# Altium integrated library Altium_WE-PD2A (rev20a).IntLib: 94 symbols (part 1 of 2)
Pins are listed as number, name and electrical type; pins without a type are passive.

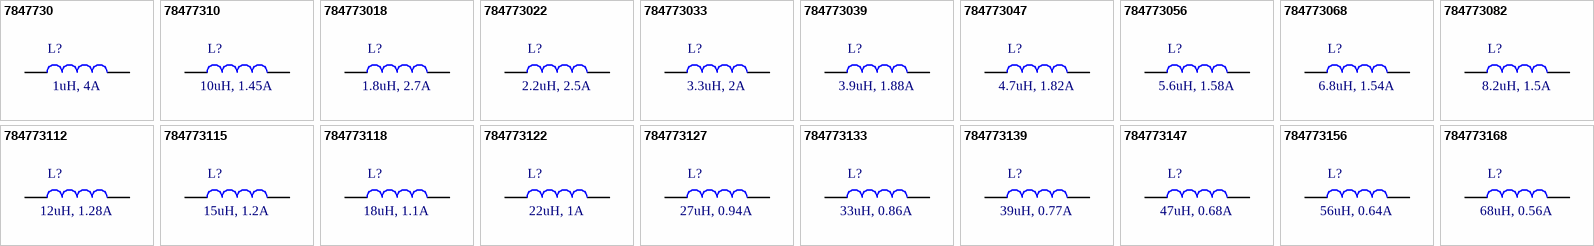
[diagram p0: symbols 7847730 to 784773168]

## 7847730
designator L?, comment 1uH, 4A
WE-PD2A SMT Power Inductor, size 4532, 1uH, 4A; Manufacturer Part Number: 7847730; Manufacturer: Wurth Elektronik; DC Resistance max.: 0.049Ohm; Saturation Current: 5.72A; Self Resonant Frequency: 110MHz; DC Resistance typ.: 0.014Ohm; Rated Voltage: 80VDC; ComponentLink1Description: Manufacturer; ComponentLink1URL: http://www.we-online.de; ComponentLink2Description: Datasheet; ComponentLink2URL: https://www.we-online.com/catalog/datasheet/7847730.pdf; Published Date: May 2020; Rated Current: 4A; Inductance: 1uH; Operating Temperature: -40 to +125degC; Mounting Technology: SMT; Packaging: Tape and Reel; Size: 4532
footprint WE-PD2A_4532
pins: 1, 2

## 78477310
designator L?, comment 10uH, 1.45A
WE-PD2A SMT Power Inductor, size 4532, 10uH, 1.45A; Manufacturer Part Number: 78477310; Manufacturer: Wurth Elektronik; DC Resistance max.: 0.182Ohm; Saturation Current: 1.74A; Self Resonant Frequency: 30MHz; DC Resistance typ.: 0.118Ohm; Rated Voltage: 80VDC; ComponentLink1Description: Manufacturer; ComponentLink1URL: http://www.we-online.de; ComponentLink2Description: Datasheet; ComponentLink2URL: https://www.we-online.com/catalog/datasheet/78477310.pdf; Published Date: May 2020; Rated Current: 1.45A; Inductance: 10uH; Operating Temperature: -40 to +125degC; Mounting Technology: SMT; Packaging: Tape and Reel; Size: 4532
footprint WE-PD2A_4532
pins: 1, 2

## 784773018
designator L?, comment 1.8uH, 2.7A
WE-PD2A SMT Power Inductor, size 4532, 1.8uH, 2.7A; Manufacturer Part Number: 784773018; Manufacturer: Wurth Elektronik; DC Resistance max.: 0.064Ohm; Saturation Current: 3.6A; Self Resonant Frequency: 85MHz; DC Resistance typ.: 0.028Ohm; Rated Voltage: 80VDC; ComponentLink1Description: Manufacturer; ComponentLink1URL: http://www.we-online.de; ComponentLink2Description: Datasheet; ComponentLink2URL: https://www.we-online.com/catalog/datasheet/784773018.pdf; Published Date: May 2020; Rated Current: 2.7A; Inductance: 1.8uH; Operating Temperature: -40 to +125degC; Mounting Technology: SMT; Packaging: Tape and Reel; Size: 4532
footprint WE-PD2A_4532
pins: 1, 2

## 784773022
designator L?, comment 2.2uH, 2.5A
WE-PD2A SMT Power Inductor, size 4532, 2.2uH, 2.5A; Manufacturer Part Number: 784773022; Manufacturer: Wurth Elektronik; DC Resistance max.: 0.071Ohm; Saturation Current: 3.38A; Self Resonant Frequency: 74MHz; DC Resistance typ.: 0.034Ohm; Rated Voltage: 80VDC; ComponentLink1Description: Manufacturer; ComponentLink1URL: http://www.we-online.de; ComponentLink2Description: Datasheet; ComponentLink2URL: https://www.we-online.com/catalog/datasheet/784773022.pdf; Published Date: May 2020; Rated Current: 2.5A; Inductance: 2.2uH; Operating Temperature: -40 to +125degC; Mounting Technology: SMT; Packaging: Tape and Reel; Size: 4532
footprint WE-PD2A_4532
pins: 1, 2

## 784773033
designator L?, comment 3.3uH, 2A
WE-PD2A SMT Power Inductor, size 4532, 3.3uH, 2A; Manufacturer Part Number: 784773033; Manufacturer: Wurth Elektronik; DC Resistance max.: 0.086Ohm; Saturation Current: 2.88A; Self Resonant Frequency: 55MHz; DC Resistance typ.: 0.041Ohm; Rated Voltage: 80VDC; ComponentLink1Description: Manufacturer; ComponentLink1URL: http://www.we-online.de; ComponentLink2Description: Datasheet; ComponentLink2URL: https://www.we-online.com/catalog/datasheet/784773033.pdf; Published Date: May 2020; Rated Current: 2A; Inductance: 3.3uH; Operating Temperature: -40 to +125degC; Mounting Technology: SMT; Packaging: Tape and Reel; Size: 4532
footprint WE-PD2A_4532
pins: 1, 2

## 784773039
designator L?, comment 3.9uH, 1.88A
WE-PD2A SMT Power Inductor, size 4532, 3.9uH, 1.88A; Manufacturer Part Number: 784773039; Manufacturer: Wurth Elektronik; DC Resistance max.: 0.094Ohm; Saturation Current: 2.57A; Self Resonant Frequency: 50MHz; DC Resistance typ.: 0.054Ohm; Rated Voltage: 80VDC; ComponentLink1Description: Manufacturer; ComponentLink1URL: http://www.we-online.de; ComponentLink2Description: Datasheet; ComponentLink2URL: https://www.we-online.com/catalog/datasheet/784773039.pdf; Published Date: May 2020; Rated Current: 1.88A; Inductance: 3.9uH; Operating Temperature: -40 to +125degC; Mounting Technology: SMT; Packaging: Tape and Reel; Size: 4532
footprint WE-PD2A_4532
pins: 1, 2

## 784773047
designator L?, comment 4.7uH, 1.82A
WE-PD2A SMT Power Inductor, size 4532, 4.7uH, 1.82A; Manufacturer Part Number: 784773047; Manufacturer: Wurth Elektronik; DC Resistance max.: 0.11Ohm; Saturation Current: 2.46A; Self Resonant Frequency: 45MHz; DC Resistance typ.: 0.059Ohm; Rated Voltage: 80VDC; ComponentLink1Description: Manufacturer; ComponentLink1URL: http://www.we-online.de; ComponentLink2Description: Datasheet; ComponentLink2URL: https://www.we-online.com/catalog/datasheet/784773047.pdf; Published Date: May 2020; Rated Current: 1.82A; Inductance: 4.7uH; Operating Temperature: -40 to +125degC; Mounting Technology: SMT; Packaging: Tape and Reel; Size: 4532
footprint WE-PD2A_4532
pins: 1, 2

## 784773056
designator L?, comment 5.6uH, 1.58A
WE-PD2A SMT Power Inductor, size 4532, 5.6uH, 1.58A; Manufacturer Part Number: 784773056; Manufacturer: Wurth Elektronik; DC Resistance max.: 0.126Ohm; Saturation Current: 2.43A; Self Resonant Frequency: 40MHz; DC Resistance typ.: 0.069Ohm; Rated Voltage: 80VDC; ComponentLink1Description: Manufacturer; ComponentLink1URL: http://www.we-online.de; ComponentLink2Description: Datasheet; ComponentLink2URL: https://www.we-online.com/catalog/datasheet/784773056.pdf; Published Date: May 2020; Rated Current: 1.58A; Inductance: 5.6uH; Operating Temperature: -40 to +125degC; Mounting Technology: SMT; Packaging: Tape and Reel; Size: 4532
footprint WE-PD2A_4532
pins: 1, 2

## 784773068
designator L?, comment 6.8uH, 1.54A
WE-PD2A SMT Power Inductor, size 4532, 6.8uH, 1.54A; Manufacturer Part Number: 784773068; Manufacturer: Wurth Elektronik; DC Resistance max.: 0.131Ohm; Saturation Current: 2.1A; Self Resonant Frequency: 35MHz; DC Resistance typ.: 0.076Ohm; Rated Voltage: 80VDC; ComponentLink1Description: Manufacturer; ComponentLink1URL: http://www.we-online.de; ComponentLink2Description: Datasheet; ComponentLink2URL: https://www.we-online.com/catalog/datasheet/784773068.pdf; Published Date: May 2020; Rated Current: 1.54A; Inductance: 6.8uH; Operating Temperature: -40 to +125degC; Mounting Technology: SMT; Packaging: Tape and Reel; Size: 4532
footprint WE-PD2A_4532
pins: 1, 2

## 784773082
designator L?, comment 8.2uH, 1.5A
WE-PD2A SMT Power Inductor, size 4532, 8.2uH, 1.5A; Manufacturer Part Number: 784773082; Manufacturer: Wurth Elektronik; DC Resistance max.: 0.146Ohm; Saturation Current: 1.8A; Self Resonant Frequency: 30MHz; DC Resistance typ.: 0.116Ohm; Rated Voltage: 80VDC; ComponentLink1Description: Manufacturer; ComponentLink1URL: http://www.we-online.de; ComponentLink2Description: Datasheet; ComponentLink2URL: https://www.we-online.com/catalog/datasheet/784773082.pdf; Published Date: May 2020; Rated Current: 1.5A; Inductance: 8.2uH; Operating Temperature: -40 to +125degC; Mounting Technology: SMT; Packaging: Tape and Reel; Size: 4532
footprint WE-PD2A_4532
pins: 1, 2

## 784773112
designator L?, comment 12uH, 1.28A
WE-PD2A SMT Power Inductor, size 4532, 12uH, 1.28A; Manufacturer Part Number: 784773112; Manufacturer: Wurth Elektronik; DC Resistance max.: 0.21Ohm; Saturation Current: 1.62A; Self Resonant Frequency: 30MHz; DC Resistance typ.: 0.156Ohm; Rated Voltage: 80VDC; ComponentLink1Description: Manufacturer; ComponentLink1URL: http://www.we-online.de; ComponentLink2Description: Datasheet; ComponentLink2URL: https://www.we-online.com/catalog/datasheet/784773112.pdf; Published Date: May 2020; Rated Current: 1.28A; Inductance: 12uH; Operating Temperature: -40 to +125degC; Mounting Technology: SMT; Packaging: Tape and Reel; Size: 4532
footprint WE-PD2A_4532
pins: 1, 2

## 784773115
designator L?, comment 15uH, 1.2A
WE-PD2A SMT Power Inductor, size 4532, 15uH, 1.2A; Manufacturer Part Number: 784773115; Manufacturer: Wurth Elektronik; DC Resistance max.: 0.235Ohm; Saturation Current: 1.46A; Self Resonant Frequency: 27MHz; DC Resistance typ.: 0.204Ohm; Rated Voltage: 80VDC; ComponentLink1Description: Manufacturer; ComponentLink1URL: http://www.we-online.de; ComponentLink2Description: Datasheet; ComponentLink2URL: https://www.we-online.com/catalog/datasheet/784773115.pdf; Published Date: May 2020; Rated Current: 1.2A; Inductance: 15uH; Operating Temperature: -40 to +125degC; Mounting Technology: SMT; Packaging: Tape and Reel; Size: 4532
footprint WE-PD2A_4532
pins: 1, 2

## 784773118
designator L?, comment 18uH, 1.1A
WE-PD2A SMT Power Inductor, size 4532, 18uH, 1.1A; Manufacturer Part Number: 784773118; Manufacturer: Wurth Elektronik; DC Resistance max.: 0.338Ohm; Saturation Current: 1.29A; Self Resonant Frequency: 22MHz; DC Resistance typ.: 0.225Ohm; Rated Voltage: 80VDC; ComponentLink1Description: Manufacturer; ComponentLink1URL: http://www.we-online.de; ComponentLink2Description: Datasheet; ComponentLink2URL: https://www.we-online.com/catalog/datasheet/784773118.pdf; Published Date: May 2020; Rated Current: 1.1A; Inductance: 18uH; Operating Temperature: -40 to +125degC; Mounting Technology: SMT; Packaging: Tape and Reel; Size: 4532
footprint WE-PD2A_4532
pins: 1, 2

## 784773122
designator L?, comment 22uH, 1A
WE-PD2A SMT Power Inductor, size 4532, 22uH, 1A; Manufacturer Part Number: 784773122; Manufacturer: Wurth Elektronik; DC Resistance max.: 0.37Ohm; Saturation Current: 1.22A; Self Resonant Frequency: 20MHz; DC Resistance typ.: 0.261Ohm; Rated Voltage: 80VDC; ComponentLink1Description: Manufacturer; ComponentLink1URL: http://www.we-online.de; ComponentLink2Description: Datasheet; ComponentLink2URL: https://www.we-online.com/catalog/datasheet/784773122.pdf; Published Date: May 2020; Rated Current: 1A; Inductance: 22uH; Operating Temperature: -40 to +125degC; Mounting Technology: SMT; Packaging: Tape and Reel; Size: 4532
footprint WE-PD2A_4532
pins: 1, 2

## 784773127
designator L?, comment 27uH, 0.94A
WE-PD2A SMT Power Inductor, size 4532, 27uH, 0.94A; Manufacturer Part Number: 784773127; Manufacturer: Wurth Elektronik; DC Resistance max.: 0.522Ohm; Saturation Current: 1A; Self Resonant Frequency: 17MHz; DC Resistance typ.: 0.328Ohm; Rated Voltage: 80VDC; ComponentLink1Description: Manufacturer; ComponentLink1URL: http://www.we-online.de; ComponentLink2Description: Datasheet; ComponentLink2URL: https://www.we-online.com/catalog/datasheet/784773127.pdf; Published Date: May 2020; Rated Current: 0.94A; Inductance: 27uH; Operating Temperature: -40 to +125degC; Mounting Technology: SMT; Packaging: Tape and Reel; Size: 4532
footprint WE-PD2A_4532
pins: 1, 2

## 784773133
designator L?, comment 33uH, 0.86A
WE-PD2A SMT Power Inductor, size 4532, 33uH, 0.86A; Manufacturer Part Number: 784773133; Manufacturer: Wurth Elektronik; DC Resistance max.: 0.54Ohm; Saturation Current: 0.9A; Self Resonant Frequency: 16MHz; DC Resistance typ.: 0.37Ohm; Rated Voltage: 80VDC; ComponentLink1Description: Manufacturer; ComponentLink1URL: http://www.we-online.de; ComponentLink2Description: Datasheet; ComponentLink2URL: https://www.we-online.com/catalog/datasheet/784773133.pdf; Published Date: May 2020; Rated Current: 0.86A; Inductance: 33uH; Operating Temperature: -40 to +125degC; Mounting Technology: SMT; Packaging: Tape and Reel; Size: 4532
footprint WE-PD2A_4532
pins: 1, 2

## 784773139
designator L?, comment 39uH, 0.77A
WE-PD2A SMT Power Inductor, size 4532, 39uH, 0.77A; Manufacturer Part Number: 784773139; Manufacturer: Wurth Elektronik; DC Resistance max.: 0.587Ohm; Saturation Current: 0.87A; Self Resonant Frequency: 15MHz; DC Resistance typ.: 0.418Ohm; Rated Voltage: 80VDC; ComponentLink1Description: Manufacturer; ComponentLink1URL: http://www.we-online.de; ComponentLink2Description: Datasheet; ComponentLink2URL: https://www.we-online.com/catalog/datasheet/784773139.pdf; Published Date: May 2020; Rated Current: 0.77A; Inductance: 39uH; Operating Temperature: -40 to +125degC; Mounting Technology: SMT; Packaging: Tape and Reel; Size: 4532
footprint WE-PD2A_4532
pins: 1, 2

## 784773147
designator L?, comment 47uH, 0.68A
WE-PD2A SMT Power Inductor, size 4532, 47uH, 0.68A; Manufacturer Part Number: 784773147; Manufacturer: Wurth Elektronik; DC Resistance max.: 0.844Ohm; Saturation Current: 0.77A; Self Resonant Frequency: 12MHz; DC Resistance typ.: 0.523Ohm; Rated Voltage: 80VDC; ComponentLink1Description: Manufacturer; ComponentLink1URL: http://www.we-online.de; ComponentLink2Description: Datasheet; ComponentLink2URL: https://www.we-online.com/catalog/datasheet/784773147.pdf; Published Date: May 2020; Rated Current: 0.68A; Inductance: 47uH; Operating Temperature: -40 to +125degC; Mounting Technology: SMT; Packaging: Tape and Reel; Size: 4532
footprint WE-PD2A_4532
pins: 1, 2

## 784773156
designator L?, comment 56uH, 0.64A
WE-PD2A SMT Power Inductor, size 4532, 56uH, 0.64A; Manufacturer Part Number: 784773156; Manufacturer: Wurth Elektronik; DC Resistance max.: 0.937Ohm; Saturation Current: 0.75A; Self Resonant Frequency: 12MHz; DC Resistance typ.: 0.714Ohm; Rated Voltage: 80VDC; ComponentLink1Description: Manufacturer; ComponentLink1URL: http://www.we-online.de; ComponentLink2Description: Datasheet; ComponentLink2URL: https://www.we-online.com/catalog/datasheet/784773156.pdf; Published Date: May 2020; Rated Current: 0.64A; Inductance: 56uH; Operating Temperature: -40 to +125degC; Mounting Technology: SMT; Packaging: Tape and Reel; Size: 4532
footprint WE-PD2A_4532
pins: 1, 2

## 784773168
designator L?, comment 68uH, 0.56A
WE-PD2A SMT Power Inductor, size 4532, 68uH, 0.56A; Manufacturer Part Number: 784773168; Manufacturer: Wurth Elektronik; DC Resistance max.: 1.117Ohm; Saturation Current: 0.68A; Self Resonant Frequency: 11MHz; DC Resistance typ.: 0.754Ohm; Rated Voltage: 80VDC; ComponentLink1Description: Manufacturer; ComponentLink1URL: http://www.we-online.de; ComponentLink2Description: Datasheet; ComponentLink2URL: https://www.we-online.com/catalog/datasheet/784773168.pdf; Published Date: May 2020; Rated Current: 0.56A; Inductance: 68uH; Operating Temperature: -40 to +125degC; Mounting Technology: SMT; Packaging: Tape and Reel; Size: 4532
footprint WE-PD2A_4532
pins: 1, 2


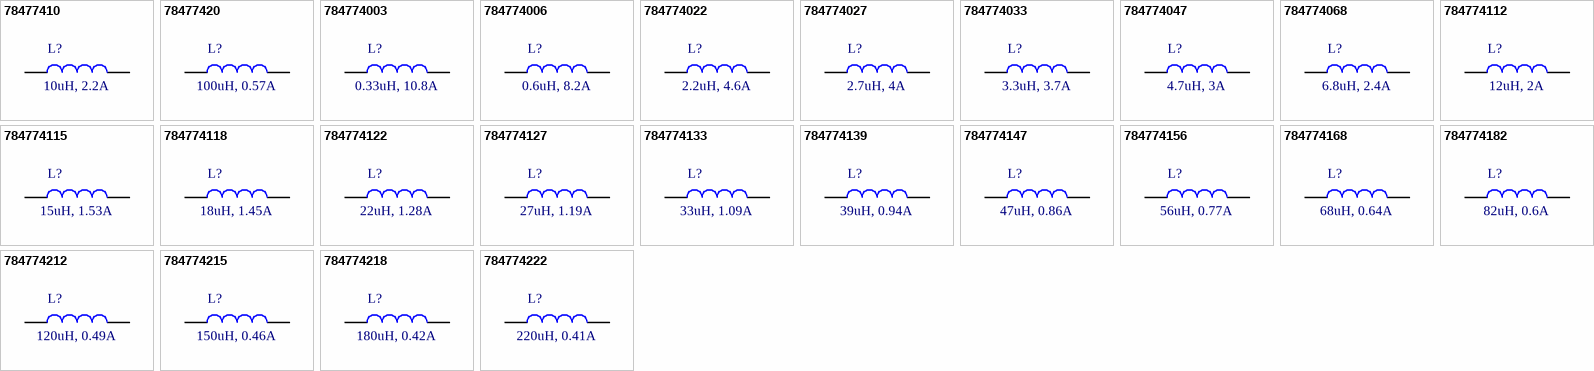
[diagram p1: symbols 78477410 to 784774222]

## 78477410
designator L?, comment 10uH, 2.2A
WE-PD2A SMT Power Inductor, size 5848, 10uH, 2.2A; Manufacturer Part Number: 78477410; Manufacturer: Wurth Elektronik; DC Resistance max.: 0.1Ohm; Saturation Current: 2.5A; Self Resonant Frequency: 26MHz; DC Resistance typ.: 0.078Ohm; Rated Voltage: 80VDC; ComponentLink1Description: Manufacturer; ComponentLink1URL: http://www.we-online.de; ComponentLink2Description: Datasheet; ComponentLink2URL: https://www.we-online.com/catalog/datasheet/78477410.pdf; Published Date: May 2020; Rated Current: 2.2A; Inductance: 10uH; Operating Temperature: -40 to +125degC; Mounting Technology: SMT; Packaging: Tape and Reel; Size: 5848
footprint WE-PD2A_5848
pins: 1, 2

## 78477420
designator L?, comment 100uH, 0.57A
WE-PD2A SMT Power Inductor, size 5848, 100uH, 0.57A; Manufacturer Part Number: 78477420; Manufacturer: Wurth Elektronik; DC Resistance max.: 0.65Ohm; Saturation Current: 0.68A; Self Resonant Frequency: 7MHz; DC Resistance typ.: 0.51Ohm; Rated Voltage: 80VDC; ComponentLink1Description: Manufacturer; ComponentLink1URL: http://www.we-online.de; ComponentLink2Description: Datasheet; ComponentLink2URL: https://www.we-online.com/catalog/datasheet/78477420.pdf; Published Date: May 2020; Rated Current: 0.57A; Inductance: 100uH; Operating Temperature: -40 to +125degC; Mounting Technology: SMT; Packaging: Tape and Reel; Size: 5848
footprint WE-PD2A_5848
pins: 1, 2

## 784774003
designator L?, comment 0.33uH, 10.8A
WE-PD2A SMT Power Inductor, size 5848, 0.33uH, 10.8A; Manufacturer Part Number: 784774003; Manufacturer: Wurth Elektronik; DC Resistance max.: 0.008Ohm; Saturation Current: 15.3A; Self Resonant Frequency: 295MHz; DC Resistance typ.: 0.006Ohm; Rated Voltage: 80VDC; ComponentLink1Description: Manufacturer; ComponentLink1URL: http://www.we-online.de; ComponentLink2Description: Datasheet; ComponentLink2URL: https://www.we-online.com/catalog/datasheet/784774003.pdf; Published Date: May 2020; Rated Current: 10.8A; Inductance: 0.33uH; Operating Temperature: -40 to +125degC; Mounting Technology: SMT; Packaging: Tape and Reel; Size: 5848
footprint WE-PD2A_5848
pins: 1, 2

## 784774006
designator L?, comment 0.6uH, 8.2A
WE-PD2A SMT Power Inductor, size 5848, 0.6uH, 8.2A; Manufacturer Part Number: 784774006; Manufacturer: Wurth Elektronik; DC Resistance max.: 0.018Ohm; Saturation Current: 13.5A; Self Resonant Frequency: 210MHz; DC Resistance typ.: 0.009Ohm; Rated Voltage: 80VDC; ComponentLink1Description: Manufacturer; ComponentLink1URL: http://www.we-online.de; ComponentLink2Description: Datasheet; ComponentLink2URL: https://www.we-online.com/catalog/datasheet/784774006.pdf; Published Date: May 2020; Rated Current: 8.2A; Inductance: 0.6uH; Operating Temperature: -40 to +125degC; Mounting Technology: SMT; Packaging: Tape and Reel; Size: 5848
footprint WE-PD2A_5848
pins: 1, 2

## 784774022
designator L?, comment 2.2uH, 4.6A
WE-PD2A SMT Power Inductor, size 5848, 2.2uH, 4.6A; Manufacturer Part Number: 784774022; Manufacturer: Wurth Elektronik; DC Resistance max.: 0.041Ohm; Saturation Current: 8.2A; Self Resonant Frequency: 54MHz; DC Resistance typ.: 0.026Ohm; Rated Voltage: 80VDC; ComponentLink1Description: Manufacturer; ComponentLink1URL: http://www.we-online.de; ComponentLink2Description: Datasheet; ComponentLink2URL: https://www.we-online.com/catalog/datasheet/784774022.pdf; Published Date: May 2020; Rated Current: 4.6A; Inductance: 2.2uH; Operating Temperature: -40 to +125degC; Mounting Technology: SMT; Packaging: Tape and Reel; Size: 5848
footprint WE-PD2A_5848
pins: 1, 2

## 784774027
designator L?, comment 2.7uH, 4A
WE-PD2A SMT Power Inductor, size 5848, 2.7uH, 4A; Manufacturer Part Number: 784774027; Manufacturer: Wurth Elektronik; DC Resistance max.: 0.045Ohm; Saturation Current: 8A; Self Resonant Frequency: 50MHz; DC Resistance typ.: 0.032Ohm; Rated Voltage: 80VDC; ComponentLink1Description: Manufacturer; ComponentLink1URL: http://www.we-online.de; ComponentLink2Description: Datasheet; ComponentLink2URL: https://www.we-online.com/catalog/datasheet/784774027.pdf; Published Date: May 2020; Rated Current: 4A; Inductance: 2.7uH; Operating Temperature: -40 to +125degC; Mounting Technology: SMT; Packaging: Tape and Reel; Size: 5848
footprint WE-PD2A_5848
pins: 1, 2

## 784774033
designator L?, comment 3.3uH, 3.7A
WE-PD2A SMT Power Inductor, size 5848, 3.3uH, 3.7A; Manufacturer Part Number: 784774033; Manufacturer: Wurth Elektronik; DC Resistance max.: 0.06Ohm; Saturation Current: 7.5A; Self Resonant Frequency: 43MHz; DC Resistance typ.: 0.042Ohm; Rated Voltage: 80VDC; ComponentLink1Description: Manufacturer; ComponentLink1URL: http://www.we-online.de; ComponentLink2Description: Datasheet; ComponentLink2URL: https://www.we-online.com/catalog/datasheet/784774033.pdf; Published Date: May 2020; Rated Current: 3.7A; Inductance: 3.3uH; Operating Temperature: -40 to +125degC; Mounting Technology: SMT; Packaging: Tape and Reel; Size: 5848
footprint WE-PD2A_5848
pins: 1, 2

## 784774047
designator L?, comment 4.7uH, 3A
WE-PD2A SMT Power Inductor, size 5848, 4.7uH, 3A; Manufacturer Part Number: 784774047; Manufacturer: Wurth Elektronik; DC Resistance max.: 0.071Ohm; Saturation Current: 5.5A; Self Resonant Frequency: 33MHz; DC Resistance typ.: 0.056Ohm; Rated Voltage: 80VDC; ComponentLink1Description: Manufacturer; ComponentLink1URL: http://www.we-online.de; ComponentLink2Description: Datasheet; ComponentLink2URL: https://www.we-online.com/catalog/datasheet/784774047.pdf; Published Date: May 2020; Rated Current: 3A; Inductance: 4.7uH; Operating Temperature: -40 to +125degC; Mounting Technology: SMT; Packaging: Tape and Reel; Size: 5848
footprint WE-PD2A_5848
pins: 1, 2

## 784774068
designator L?, comment 6.8uH, 2.4A
WE-PD2A SMT Power Inductor, size 5848, 6.8uH, 2.4A; Manufacturer Part Number: 784774068; Manufacturer: Wurth Elektronik; DC Resistance max.: 0.082Ohm; Saturation Current: 5A; Self Resonant Frequency: 28MHz; DC Resistance typ.: 0.071Ohm; Rated Voltage: 80VDC; ComponentLink1Description: Manufacturer; ComponentLink1URL: http://www.we-online.de; ComponentLink2Description: Datasheet; ComponentLink2URL: https://www.we-online.com/catalog/datasheet/784774068.pdf; Published Date: May 2020; Rated Current: 2.4A; Inductance: 6.8uH; Operating Temperature: -40 to +125degC; Mounting Technology: SMT; Packaging: Tape and Reel; Size: 5848
footprint WE-PD2A_5848
pins: 1, 2

## 784774112
designator L?, comment 12uH, 2A
WE-PD2A SMT Power Inductor, size 5848, 12uH, 2A; Manufacturer Part Number: 784774112; Manufacturer: Wurth Elektronik; DC Resistance max.: 0.11Ohm; Saturation Current: 1.94A; Self Resonant Frequency: 24MHz; DC Resistance typ.: 0.082Ohm; Rated Voltage: 80VDC; ComponentLink1Description: Manufacturer; ComponentLink1URL: http://www.we-online.de; ComponentLink2Description: Datasheet; ComponentLink2URL: https://www.we-online.com/catalog/datasheet/784774112.pdf; Published Date: May 2020; Rated Current: 2A; Inductance: 12uH; Operating Temperature: -40 to +125degC; Mounting Technology: SMT; Packaging: Tape and Reel; Size: 5848
footprint WE-PD2A_5848
pins: 1, 2

## 784774115
designator L?, comment 15uH, 1.53A
WE-PD2A SMT Power Inductor, size 5848, 15uH, 1.53A; Manufacturer Part Number: 784774115; Manufacturer: Wurth Elektronik; DC Resistance max.: 0.14Ohm; Saturation Current: 1.9A; Self Resonant Frequency: 20MHz; DC Resistance typ.: 0.089Ohm; Rated Voltage: 80VDC; ComponentLink1Description: Manufacturer; ComponentLink1URL: http://www.we-online.de; ComponentLink2Description: Datasheet; ComponentLink2URL: https://www.we-online.com/catalog/datasheet/784774115.pdf; Published Date: May 2020; Rated Current: 1.53A; Inductance: 15uH; Operating Temperature: -40 to +125degC; Mounting Technology: SMT; Packaging: Tape and Reel; Size: 5848
footprint WE-PD2A_5848
pins: 1, 2

## 784774118
designator L?, comment 18uH, 1.45A
WE-PD2A SMT Power Inductor, size 5848, 18uH, 1.45A; Manufacturer Part Number: 784774118; Manufacturer: Wurth Elektronik; DC Resistance max.: 0.15Ohm; Saturation Current: 1.69A; Self Resonant Frequency: 19MHz; DC Resistance typ.: 0.104Ohm; Rated Voltage: 80VDC; ComponentLink1Description: Manufacturer; ComponentLink1URL: http://www.we-online.de; ComponentLink2Description: Datasheet; ComponentLink2URL: https://www.we-online.com/catalog/datasheet/784774118.pdf; Published Date: May 2020; Rated Current: 1.45A; Inductance: 18uH; Operating Temperature: -40 to +125degC; Mounting Technology: SMT; Packaging: Tape and Reel; Size: 5848
footprint WE-PD2A_5848
pins: 1, 2

## 784774122
designator L?, comment 22uH, 1.28A
WE-PD2A SMT Power Inductor, size 5848, 22uH, 1.28A; Manufacturer Part Number: 784774122; Manufacturer: Wurth Elektronik; DC Resistance max.: 0.18Ohm; Saturation Current: 1.53A; Self Resonant Frequency: 16MHz; DC Resistance typ.: 0.109Ohm; Rated Voltage: 80VDC; ComponentLink1Description: Manufacturer; ComponentLink1URL: http://www.we-online.de; ComponentLink2Description: Datasheet; ComponentLink2URL: https://www.we-online.com/catalog/datasheet/784774122.pdf; Published Date: May 2020; Rated Current: 1.28A; Inductance: 22uH; Operating Temperature: -40 to +125degC; Mounting Technology: SMT; Packaging: Tape and Reel; Size: 5848
footprint WE-PD2A_5848
pins: 1, 2

## 784774127
designator L?, comment 27uH, 1.19A
WE-PD2A SMT Power Inductor, size 5848, 27uH, 1.19A; Manufacturer Part Number: 784774127; Manufacturer: Wurth Elektronik; DC Resistance max.: 0.2Ohm; Saturation Current: 1.4A; Self Resonant Frequency: 15MHz; DC Resistance typ.: 0.133Ohm; Rated Voltage: 80VDC; ComponentLink1Description: Manufacturer; ComponentLink1URL: http://www.we-online.de; ComponentLink2Description: Datasheet; ComponentLink2URL: https://www.we-online.com/catalog/datasheet/784774127.pdf; Published Date: May 2020; Rated Current: 1.19A; Inductance: 27uH; Operating Temperature: -40 to +125degC; Mounting Technology: SMT; Packaging: Tape and Reel; Size: 5848
footprint WE-PD2A_5848
pins: 1, 2

## 784774133
designator L?, comment 33uH, 1.09A
WE-PD2A SMT Power Inductor, size 5848, 33uH, 1.09A; Manufacturer Part Number: 784774133; Manufacturer: Wurth Elektronik; DC Resistance max.: 0.23Ohm; Saturation Current: 1.17A; Self Resonant Frequency: 14MHz; DC Resistance typ.: 0.15Ohm; Rated Voltage: 80VDC; ComponentLink1Description: Manufacturer; ComponentLink1URL: http://www.we-online.de; ComponentLink2Description: Datasheet; ComponentLink2URL: https://www.we-online.com/catalog/datasheet/784774133.pdf; Published Date: May 2020; Rated Current: 1.09A; Inductance: 33uH; Operating Temperature: -40 to +125degC; Mounting Technology: SMT; Packaging: Tape and Reel; Size: 5848
footprint WE-PD2A_5848
pins: 1, 2

## 784774139
designator L?, comment 39uH, 0.94A
WE-PD2A SMT Power Inductor, size 5848, 39uH, 0.94A; Manufacturer Part Number: 784774139; Manufacturer: Wurth Elektronik; DC Resistance max.: 0.32Ohm; Saturation Current: 1.1A; Self Resonant Frequency: 12MHz; DC Resistance typ.: 0.215Ohm; Rated Voltage: 80VDC; ComponentLink1Description: Manufacturer; ComponentLink1URL: http://www.we-online.de; ComponentLink2Description: Datasheet; ComponentLink2URL: https://www.we-online.com/catalog/datasheet/784774139.pdf; Published Date: May 2020; Rated Current: 0.94A; Inductance: 39uH; Operating Temperature: -40 to +125degC; Mounting Technology: SMT; Packaging: Tape and Reel; Size: 5848
footprint WE-PD2A_5848
pins: 1, 2

## 784774147
designator L?, comment 47uH, 0.86A
WE-PD2A SMT Power Inductor, size 5848, 47uH, 0.86A; Manufacturer Part Number: 784774147; Manufacturer: Wurth Elektronik; DC Resistance max.: 0.37Ohm; Saturation Current: 1A; Self Resonant Frequency: 10MHz; DC Resistance typ.: 0.26Ohm; Rated Voltage: 80VDC; ComponentLink1Description: Manufacturer; ComponentLink1URL: http://www.we-online.de; ComponentLink2Description: Datasheet; ComponentLink2URL: https://www.we-online.com/catalog/datasheet/784774147.pdf; Published Date: May 2020; Rated Current: 0.86A; Inductance: 47uH; Operating Temperature: -40 to +125degC; Mounting Technology: SMT; Packaging: Tape and Reel; Size: 5848
footprint WE-PD2A_5848
pins: 1, 2

## 784774156
designator L?, comment 56uH, 0.77A
WE-PD2A SMT Power Inductor, size 5848, 56uH, 0.77A; Manufacturer Part Number: 784774156; Manufacturer: Wurth Elektronik; DC Resistance max.: 0.42Ohm; Saturation Current: 0.9A; Self Resonant Frequency: 10MHz; DC Resistance typ.: 0.298Ohm; Rated Voltage: 80VDC; ComponentLink1Description: Manufacturer; ComponentLink1URL: http://www.we-online.de; ComponentLink2Description: Datasheet; ComponentLink2URL: https://www.we-online.com/catalog/datasheet/784774156.pdf; Published Date: May 2020; Rated Current: 0.77A; Inductance: 56uH; Operating Temperature: -40 to +125degC; Mounting Technology: SMT; Packaging: Tape and Reel; Size: 5848
footprint WE-PD2A_5848
pins: 1, 2

## 784774168
designator L?, comment 68uH, 0.64A
WE-PD2A SMT Power Inductor, size 5848, 68uH, 0.64A; Manufacturer Part Number: 784774168; Manufacturer: Wurth Elektronik; DC Resistance max.: 0.46Ohm; Saturation Current: 0.86A; Self Resonant Frequency: 10MHz; DC Resistance typ.: 0.313Ohm; Rated Voltage: 80VDC; ComponentLink1Description: Manufacturer; ComponentLink1URL: http://www.we-online.de; ComponentLink2Description: Datasheet; ComponentLink2URL: https://www.we-online.com/catalog/datasheet/784774168.pdf; Published Date: May 2020; Rated Current: 0.64A; Inductance: 68uH; Operating Temperature: -40 to +125degC; Mounting Technology: SMT; Packaging: Tape and Reel; Size: 5848
footprint WE-PD2A_5848
pins: 1, 2

## 784774182
designator L?, comment 82uH, 0.6A
WE-PD2A SMT Power Inductor, size 5848, 82uH, 0.6A; Manufacturer Part Number: 784774182; Manufacturer: Wurth Elektronik; DC Resistance max.: 0.6Ohm; Saturation Current: 0.72A; Self Resonant Frequency: 8MHz; DC Resistance typ.: 0.475Ohm; Rated Voltage: 80VDC; ComponentLink1Description: Manufacturer; ComponentLink1URL: http://www.we-online.de; ComponentLink2Description: Datasheet; ComponentLink2URL: https://www.we-online.com/catalog/datasheet/784774182.pdf; Published Date: May 2020; Rated Current: 0.6A; Inductance: 82uH; Operating Temperature: -40 to +125degC; Mounting Technology: SMT; Packaging: Tape and Reel; Size: 5848
footprint WE-PD2A_5848
pins: 1, 2

## 784774212
designator L?, comment 120uH, 0.49A
WE-PD2A SMT Power Inductor, size 5848, 120uH, 0.49A; Manufacturer Part Number: 784774212; Manufacturer: Wurth Elektronik; DC Resistance max.: 0.93Ohm; Saturation Current: 0.63A; Self Resonant Frequency: 7MHz; DC Resistance typ.: 0.66Ohm; Rated Voltage: 80VDC; ComponentLink1Description: Manufacturer; ComponentLink1URL: http://www.we-online.de; ComponentLink2Description: Datasheet; ComponentLink2URL: https://www.we-online.com/catalog/datasheet/784774212.pdf; Published Date: May 2020; Rated Current: 0.49A; Inductance: 120uH; Operating Temperature: -40 to +125degC; Mounting Technology: SMT; Packaging: Tape and Reel; Size: 5848
footprint WE-PD2A_5848
pins: 1, 2

## 784774215
designator L?, comment 150uH, 0.46A
WE-PD2A SMT Power Inductor, size 5848, 150uH, 0.46A; Manufacturer Part Number: 784774215; Manufacturer: Wurth Elektronik; DC Resistance max.: 1.1Ohm; Saturation Current: 0.54A; Self Resonant Frequency: 6MHz; DC Resistance typ.: 0.72Ohm; Rated Voltage: 80VDC; ComponentLink1Description: Manufacturer; ComponentLink1URL: http://www.we-online.de; ComponentLink2Description: Datasheet; ComponentLink2URL: https://www.we-online.com/catalog/datasheet/784774215.pdf; Published Date: May 2020; Rated Current: 0.46A; Inductance: 150uH; Operating Temperature: -40 to +125degC; Mounting Technology: SMT; Packaging: Tape and Reel; Size: 5848
footprint WE-PD2A_5848
pins: 1, 2

## 784774218
designator L?, comment 180uH, 0.42A
WE-PD2A SMT Power Inductor, size 5848, 180uH, 0.42A; Manufacturer Part Number: 784774218; Manufacturer: Wurth Elektronik; DC Resistance max.: 1.38Ohm; Saturation Current: 0.5A; Self Resonant Frequency: 6MHz; DC Resistance typ.: 0.85Ohm; Rated Voltage: 80VDC; ComponentLink1Description: Manufacturer; ComponentLink1URL: http://www.we-online.de; ComponentLink2Description: Datasheet; ComponentLink2URL: https://www.we-online.com/catalog/datasheet/784774218.pdf; Published Date: May 2020; Rated Current: 0.42A; Inductance: 180uH; Operating Temperature: -40 to +125degC; Mounting Technology: SMT; Packaging: Tape and Reel; Size: 5848
footprint WE-PD2A_5848
pins: 1, 2

## 784774222
designator L?, comment 220uH, 0.41A
WE-PD2A SMT Power Inductor, size 5848, 220uH, 0.41A; Manufacturer Part Number: 784774222; Manufacturer: Wurth Elektronik; DC Resistance max.: 1.57Ohm; Saturation Current: 0.47A; Self Resonant Frequency: 5MHz; DC Resistance typ.: 0.945Ohm; Rated Voltage: 80VDC; ComponentLink1Description: Manufacturer; ComponentLink1URL: http://www.we-online.de; ComponentLink2Description: Datasheet; ComponentLink2URL: https://www.we-online.com/catalog/datasheet/784774222.pdf; Published Date: May 2020; Rated Current: 0.41A; Inductance: 220uH; Operating Temperature: -40 to +125degC; Mounting Technology: SMT; Packaging: Tape and Reel; Size: 5848
footprint WE-PD2A_5848
pins: 1, 2


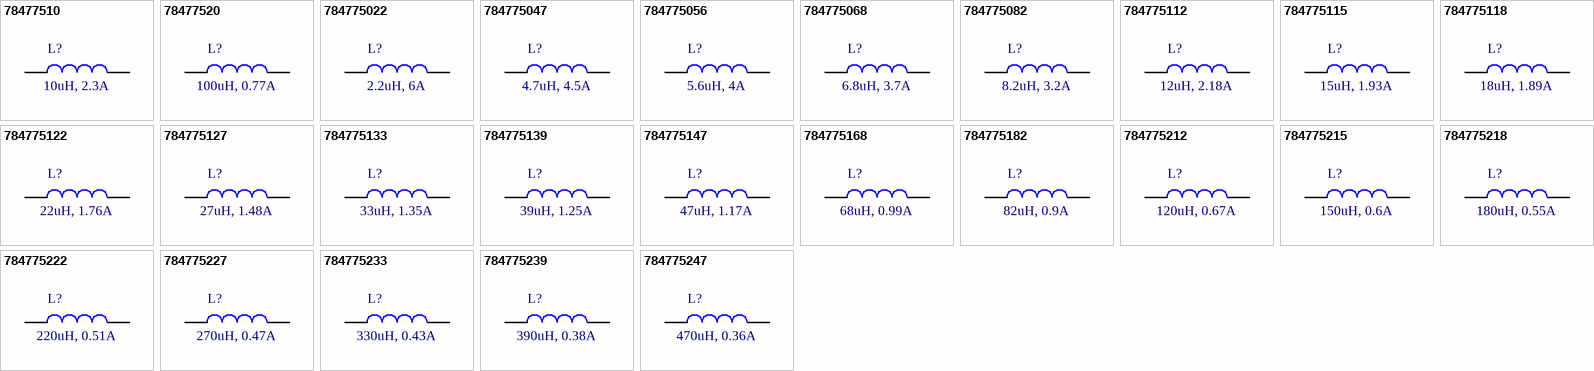
[diagram p2: symbols 78477510 to 784775247]

## 78477510
designator L?, comment 10uH, 2.3A
WE-PD2A SMT Power Inductor, size 7850, 10uH, 2.3A; Manufacturer Part Number: 78477510; Manufacturer: Wurth Elektronik; DC Resistance max.: 0.07Ohm; Saturation Current: 2.95A; Self Resonant Frequency: 23MHz; DC Resistance typ.: 0.04Ohm; Rated Voltage: 80VDC; ComponentLink1Description: Manufacturer; ComponentLink1URL: http://www.we-online.de; ComponentLink2Description: Datasheet; ComponentLink2URL: https://www.we-online.com/catalog/datasheet/78477510.pdf; Published Date: May 2020; Rated Current: 2.3A; Inductance: 10uH; Operating Temperature: -40 to +125degC; Mounting Technology: SMT; Packaging: Tape and Reel; Size: 7850
footprint WE-PD2A_7850
pins: 1, 2

## 78477520
designator L?, comment 100uH, 0.77A
WE-PD2A SMT Power Inductor, size 7850, 100uH, 0.77A; Manufacturer Part Number: 78477520; Manufacturer: Wurth Elektronik; DC Resistance max.: 0.43Ohm; Saturation Current: 0.86A; Self Resonant Frequency: 7MHz; DC Resistance typ.: 0.281Ohm; Rated Voltage: 80VDC; ComponentLink1Description: Manufacturer; ComponentLink1URL: http://www.we-online.de; ComponentLink2Description: Datasheet; ComponentLink2URL: https://www.we-online.com/catalog/datasheet/78477520.pdf; Published Date: May 2020; Rated Current: 0.77A; Inductance: 100uH; Operating Temperature: -40 to +125degC; Mounting Technology: SMT; Packaging: Tape and Reel; Size: 7850
footprint WE-PD2A_7850
pins: 1, 2

## 784775022
designator L?, comment 2.2uH, 6A
WE-PD2A SMT Power Inductor, size 7850, 2.2uH, 6A; Manufacturer Part Number: 784775022; Manufacturer: Wurth Elektronik; DC Resistance max.: 0.015Ohm; Self Resonant Frequency: 70MHz; DC Resistance typ.: 0.008Ohm; Rated Voltage: 80VDC; ComponentLink1Description: Manufacturer; ComponentLink1URL: http://www.we-online.de; ComponentLink2Description: Datasheet; ComponentLink2URL: https://www.we-online.com/catalog/datasheet/784775022.pdf; Published Date: May 2020; Rated Current: 6A; Inductance: 2.2uH; Operating Temperature: -40 to +125degC; Mounting Technology: SMT; Packaging: Tape and Reel; Saturation Current: 6A; Size: 7850
footprint WE-PD2A_7850
pins: 1, 2

## 784775047
designator L?, comment 4.7uH, 4.5A
WE-PD2A SMT Power Inductor, size 7850, 4.7uH, 4.5A; Manufacturer Part Number: 784775047; Manufacturer: Wurth Elektronik; DC Resistance max.: 0.019Ohm; Self Resonant Frequency: 47MHz; DC Resistance typ.: 0.016Ohm; Rated Voltage: 80VDC; ComponentLink1Description: Manufacturer; ComponentLink1URL: http://www.we-online.de; ComponentLink2Description: Datasheet; ComponentLink2URL: https://www.we-online.com/catalog/datasheet/784775047.pdf; Published Date: May 2020; Rated Current: 4.5A; Inductance: 4.7uH; Operating Temperature: -40 to +125degC; Mounting Technology: SMT; Packaging: Tape and Reel; Saturation Current: 4.5A; Size: 7850
footprint WE-PD2A_7850
pins: 1, 2

## 784775056
designator L?, comment 5.6uH, 4A
WE-PD2A SMT Power Inductor, size 7850, 5.6uH, 4A; Manufacturer Part Number: 784775056; Manufacturer: Wurth Elektronik; DC Resistance max.: 0.022Ohm; Self Resonant Frequency: 34MHz; DC Resistance typ.: 0.018Ohm; Rated Voltage: 80VDC; ComponentLink1Description: Manufacturer; ComponentLink1URL: http://www.we-online.de; ComponentLink2Description: Datasheet; ComponentLink2URL: https://www.we-online.com/catalog/datasheet/784775056.pdf; Published Date: May 2020; Rated Current: 4A; Inductance: 5.6uH; Operating Temperature: -40 to +125degC; Mounting Technology: SMT; Packaging: Tape and Reel; Saturation Current: 4A; Size: 7850
footprint WE-PD2A_7850
pins: 1, 2

## 784775068
designator L?, comment 6.8uH, 3.7A
WE-PD2A SMT Power Inductor, size 7850, 6.8uH, 3.7A; Manufacturer Part Number: 784775068; Manufacturer: Wurth Elektronik; DC Resistance max.: 0.026Ohm; Saturation Current: 3.8A; Self Resonant Frequency: 30MHz; DC Resistance typ.: 0.022Ohm; Rated Voltage: 80VDC; ComponentLink1Description: Manufacturer; ComponentLink1URL: http://www.we-online.de; ComponentLink2Description: Datasheet; ComponentLink2URL: https://www.we-online.com/catalog/datasheet/784775068.pdf; Published Date: May 2020; Rated Current: 3.7A; Inductance: 6.8uH; Operating Temperature: -40 to +125degC; Mounting Technology: SMT; Packaging: Tape and Reel; Size: 7850
footprint WE-PD2A_7850
pins: 1, 2

## 784775082
designator L?, comment 8.2uH, 3.2A
WE-PD2A SMT Power Inductor, size 7850, 8.2uH, 3.2A; Manufacturer Part Number: 784775082; Manufacturer: Wurth Elektronik; DC Resistance max.: 0.029Ohm; Self Resonant Frequency: 33MHz; DC Resistance typ.: 0.024Ohm; Rated Voltage: 80VDC; ComponentLink1Description: Manufacturer; ComponentLink1URL: http://www.we-online.de; ComponentLink2Description: Datasheet; ComponentLink2URL: https://www.we-online.com/catalog/datasheet/784775082.pdf; Published Date: May 2020; Rated Current: 3.2A; Inductance: 8.2uH; Operating Temperature: -40 to +125degC; Mounting Technology: SMT; Packaging: Tape and Reel; Saturation Current: 3.2A; Size: 7850
footprint WE-PD2A_7850
pins: 1, 2

## 784775112
designator L?, comment 12uH, 2.18A
WE-PD2A SMT Power Inductor, size 7850, 12uH, 2.18A; Manufacturer Part Number: 784775112; Manufacturer: Wurth Elektronik; DC Resistance max.: 0.08Ohm; Saturation Current: 2.23A; Self Resonant Frequency: 20MHz; DC Resistance typ.: 0.042Ohm; Rated Voltage: 80VDC; ComponentLink1Description: Manufacturer; ComponentLink1URL: http://www.we-online.de; ComponentLink2Description: Datasheet; ComponentLink2URL: https://www.we-online.com/catalog/datasheet/784775112.pdf; Published Date: May 2020; Rated Current: 2.18A; Inductance: 12uH; Operating Temperature: -40 to +125degC; Mounting Technology: SMT; Packaging: Tape and Reel; Size: 7850
footprint WE-PD2A_7850
pins: 1, 2

## 784775115
designator L?, comment 15uH, 1.93A
WE-PD2A SMT Power Inductor, size 7850, 15uH, 1.93A; Manufacturer Part Number: 784775115; Manufacturer: Wurth Elektronik; DC Resistance max.: 0.09Ohm; Saturation Current: 2.2A; Self Resonant Frequency: 18MHz; DC Resistance typ.: 0.044Ohm; Rated Voltage: 80VDC; ComponentLink1Description: Manufacturer; ComponentLink1URL: http://www.we-online.de; ComponentLink2Description: Datasheet; ComponentLink2URL: https://www.we-online.com/catalog/datasheet/784775115.pdf; Published Date: May 2020; Rated Current: 1.93A; Inductance: 15uH; Operating Temperature: -40 to +125degC; Mounting Technology: SMT; Packaging: Tape and Reel; Size: 7850
footprint WE-PD2A_7850
pins: 1, 2

## 784775118
designator L?, comment 18uH, 1.89A
WE-PD2A SMT Power Inductor, size 7850, 18uH, 1.89A; Manufacturer Part Number: 784775118; Manufacturer: Wurth Elektronik; DC Resistance max.: 0.1Ohm; Saturation Current: 2.14A; Self Resonant Frequency: 17MHz; DC Resistance typ.: 0.053Ohm; Rated Voltage: 80VDC; ComponentLink1Description: Manufacturer; ComponentLink1URL: http://www.we-online.de; ComponentLink2Description: Datasheet; ComponentLink2URL: https://www.we-online.com/catalog/datasheet/784775118.pdf; Published Date: May 2020; Rated Current: 1.89A; Inductance: 18uH; Operating Temperature: -40 to +125degC; Mounting Technology: SMT; Packaging: Tape and Reel; Size: 7850
footprint WE-PD2A_7850
pins: 1, 2

## 784775122
designator L?, comment 22uH, 1.76A
WE-PD2A SMT Power Inductor, size 7850, 22uH, 1.76A; Manufacturer Part Number: 784775122; Manufacturer: Wurth Elektronik; DC Resistance max.: 0.11Ohm; Saturation Current: 1.81A; Self Resonant Frequency: 15MHz; DC Resistance typ.: 0.065Ohm; Rated Voltage: 80VDC; ComponentLink1Description: Manufacturer; ComponentLink1URL: http://www.we-online.de; ComponentLink2Description: Datasheet; ComponentLink2URL: https://www.we-online.com/catalog/datasheet/784775122.pdf; Published Date: May 2020; Rated Current: 1.76A; Inductance: 22uH; Operating Temperature: -40 to +125degC; Mounting Technology: SMT; Packaging: Tape and Reel; Size: 7850
footprint WE-PD2A_7850
pins: 1, 2

## 784775127
designator L?, comment 27uH, 1.48A
WE-PD2A SMT Power Inductor, size 7850, 27uH, 1.48A; Manufacturer Part Number: 784775127; Manufacturer: Wurth Elektronik; DC Resistance max.: 0.12Ohm; Saturation Current: 1.62A; Self Resonant Frequency: 14MHz; DC Resistance typ.: 0.074Ohm; Rated Voltage: 80VDC; ComponentLink1Description: Manufacturer; ComponentLink1URL: http://www.we-online.de; ComponentLink2Description: Datasheet; ComponentLink2URL: https://www.we-online.com/catalog/datasheet/784775127.pdf; Published Date: May 2020; Rated Current: 1.48A; Inductance: 27uH; Operating Temperature: -40 to +125degC; Mounting Technology: SMT; Packaging: Tape and Reel; Size: 7850
footprint WE-PD2A_7850
pins: 1, 2

## 784775133
designator L?, comment 33uH, 1.35A
WE-PD2A SMT Power Inductor, size 7850, 33uH, 1.35A; Manufacturer Part Number: 784775133; Manufacturer: Wurth Elektronik; DC Resistance max.: 0.13Ohm; Saturation Current: 1.47A; Self Resonant Frequency: 13MHz; DC Resistance typ.: 0.089Ohm; Rated Voltage: 80VDC; ComponentLink1Description: Manufacturer; ComponentLink1URL: http://www.we-online.de; ComponentLink2Description: Datasheet; ComponentLink2URL: https://www.we-online.com/catalog/datasheet/784775133.pdf; Published Date: May 2020; Rated Current: 1.35A; Inductance: 33uH; Operating Temperature: -40 to +125degC; Mounting Technology: SMT; Packaging: Tape and Reel; Size: 7850
footprint WE-PD2A_7850
pins: 1, 2

## 784775139
designator L?, comment 39uH, 1.25A
WE-PD2A SMT Power Inductor, size 7850, 39uH, 1.25A; Manufacturer Part Number: 784775139; Manufacturer: Wurth Elektronik; DC Resistance max.: 0.16Ohm; Saturation Current: 1.33A; Self Resonant Frequency: 12MHz; DC Resistance typ.: 0.116Ohm; Rated Voltage: 80VDC; ComponentLink1Description: Manufacturer; ComponentLink1URL: http://www.we-online.de; ComponentLink2Description: Datasheet; ComponentLink2URL: https://www.we-online.com/catalog/datasheet/784775139.pdf; Published Date: May 2020; Rated Current: 1.25A; Inductance: 39uH; Operating Temperature: -40 to +125degC; Mounting Technology: SMT; Packaging: Tape and Reel; Size: 7850
footprint WE-PD2A_7850
pins: 1, 2

## 784775147
designator L?, comment 47uH, 1.17A
WE-PD2A SMT Power Inductor, size 7850, 47uH, 1.17A; Manufacturer Part Number: 784775147; Manufacturer: Wurth Elektronik; DC Resistance max.: 0.18Ohm; Saturation Current: 1.24A; Self Resonant Frequency: 10MHz; DC Resistance typ.: 0.134Ohm; Rated Voltage: 80VDC; ComponentLink1Description: Manufacturer; ComponentLink1URL: http://www.we-online.de; ComponentLink2Description: Datasheet; ComponentLink2URL: https://www.we-online.com/catalog/datasheet/784775147.pdf; Published Date: May 2020; Rated Current: 1.17A; Inductance: 47uH; Operating Temperature: -40 to +125degC; Mounting Technology: SMT; Packaging: Tape and Reel; Size: 7850
footprint WE-PD2A_7850
pins: 1, 2

## 784775168
designator L?, comment 68uH, 0.99A
WE-PD2A SMT Power Inductor, size 7850, 68uH, 0.99A; Manufacturer Part Number: 784775168; Manufacturer: Wurth Elektronik; DC Resistance max.: 0.28Ohm; Saturation Current: 1.05A; Self Resonant Frequency: 8MHz; DC Resistance typ.: 0.218Ohm; Rated Voltage: 80VDC; ComponentLink1Description: Manufacturer; ComponentLink1URL: http://www.we-online.de; ComponentLink2Description: Datasheet; ComponentLink2URL: https://www.we-online.com/catalog/datasheet/784775168.pdf; Published Date: May 2020; Rated Current: 0.99A; Inductance: 68uH; Operating Temperature: -40 to +125degC; Mounting Technology: SMT; Packaging: Tape and Reel; Size: 7850
footprint WE-PD2A_7850
pins: 1, 2

## 784775182
designator L?, comment 82uH, 0.9A
WE-PD2A SMT Power Inductor, size 7850, 82uH, 0.9A; Manufacturer Part Number: 784775182; Manufacturer: Wurth Elektronik; DC Resistance max.: 0.37Ohm; Saturation Current: 0.95A; Self Resonant Frequency: 7MHz; DC Resistance typ.: 0.248Ohm; Rated Voltage: 80VDC; ComponentLink1Description: Manufacturer; ComponentLink1URL: http://www.we-online.de; ComponentLink2Description: Datasheet; ComponentLink2URL: https://www.we-online.com/catalog/datasheet/784775182.pdf; Published Date: May 2020; Rated Current: 0.9A; Inductance: 82uH; Operating Temperature: -40 to +125degC; Mounting Technology: SMT; Packaging: Tape and Reel; Size: 7850
footprint WE-PD2A_7850
pins: 1, 2

## 784775212
designator L?, comment 120uH, 0.67A
WE-PD2A SMT Power Inductor, size 7850, 120uH, 0.67A; Manufacturer Part Number: 784775212; Manufacturer: Wurth Elektronik; DC Resistance max.: 0.47Ohm; Saturation Current: 0.81A; Self Resonant Frequency: 6MHz; DC Resistance typ.: 0.34Ohm; Rated Voltage: 80VDC; ComponentLink1Description: Manufacturer; ComponentLink1URL: http://www.we-online.de; ComponentLink2Description: Datasheet; ComponentLink2URL: https://www.we-online.com/catalog/datasheet/784775212.pdf; Published Date: May 2020; Rated Current: 0.67A; Inductance: 120uH; Operating Temperature: -40 to +125degC; Mounting Technology: SMT; Packaging: Tape and Reel; Size: 7850
footprint WE-PD2A_7850
pins: 1, 2

## 784775215
designator L?, comment 150uH, 0.6A
WE-PD2A SMT Power Inductor, size 7850, 150uH, 0.6A; Manufacturer Part Number: 784775215; Manufacturer: Wurth Elektronik; DC Resistance max.: 0.64Ohm; Saturation Current: 0.71A; Self Resonant Frequency: 6MHz; DC Resistance typ.: 0.467Ohm; Rated Voltage: 80VDC; ComponentLink1Description: Manufacturer; ComponentLink1URL: http://www.we-online.de; ComponentLink2Description: Datasheet; ComponentLink2URL: https://www.we-online.com/catalog/datasheet/784775215.pdf; Published Date: May 2020; Rated Current: 0.6A; Inductance: 150uH; Operating Temperature: -40 to +125degC; Mounting Technology: SMT; Packaging: Tape and Reel; Size: 7850
footprint WE-PD2A_7850
pins: 1, 2

## 784775218
designator L?, comment 180uH, 0.55A
WE-PD2A SMT Power Inductor, size 7850, 180uH, 0.55A; Manufacturer Part Number: 784775218; Manufacturer: Wurth Elektronik; DC Resistance max.: 0.71Ohm; Saturation Current: 0.57A; Self Resonant Frequency: 5MHz; DC Resistance typ.: 0.574Ohm; Rated Voltage: 80VDC; ComponentLink1Description: Manufacturer; ComponentLink1URL: http://www.we-online.de; ComponentLink2Description: Datasheet; ComponentLink2URL: https://www.we-online.com/catalog/datasheet/784775218.pdf; Published Date: May 2020; Rated Current: 0.55A; Inductance: 180uH; Operating Temperature: -40 to +125degC; Mounting Technology: SMT; Packaging: Tape and Reel; Size: 7850
footprint WE-PD2A_7850
pins: 1, 2

## 784775222
designator L?, comment 220uH, 0.51A
WE-PD2A SMT Power Inductor, size 7850, 220uH, 0.51A; Manufacturer Part Number: 784775222; Manufacturer: Wurth Elektronik; DC Resistance max.: 0.96Ohm; Saturation Current: 0.56A; Self Resonant Frequency: 5MHz; DC Resistance typ.: 0.614Ohm; Rated Voltage: 80VDC; ComponentLink1Description: Manufacturer; ComponentLink1URL: http://www.we-online.de; ComponentLink2Description: Datasheet; ComponentLink2URL: https://www.we-online.com/catalog/datasheet/784775222.pdf; Published Date: May 2020; Rated Current: 0.51A; Inductance: 220uH; Operating Temperature: -40 to +125degC; Mounting Technology: SMT; Packaging: Tape and Reel; Size: 7850
footprint WE-PD2A_7850
pins: 1, 2

## 784775227
designator L?, comment 270uH, 0.47A
WE-PD2A SMT Power Inductor, size 7850, 270uH, 0.47A; Manufacturer Part Number: 784775227; Manufacturer: Wurth Elektronik; DC Resistance max.: 1.11Ohm; Saturation Current: 0.51A; Self Resonant Frequency: 4MHz; DC Resistance typ.: 0.699Ohm; Rated Voltage: 80VDC; ComponentLink1Description: Manufacturer; ComponentLink1URL: http://www.we-online.de; ComponentLink2Description: Datasheet; ComponentLink2URL: https://www.we-online.com/catalog/datasheet/784775227.pdf; Published Date: May 2020; Rated Current: 0.47A; Inductance: 270uH; Operating Temperature: -40 to +125degC; Mounting Technology: SMT; Packaging: Tape and Reel; Size: 7850
footprint WE-PD2A_7850
pins: 1, 2

## 784775233
designator L?, comment 330uH, 0.43A
WE-PD2A SMT Power Inductor, size 7850, 330uH, 0.43A; Manufacturer Part Number: 784775233; Manufacturer: Wurth Elektronik; DC Resistance max.: 1.26Ohm; Saturation Current: 0.48A; Self Resonant Frequency: 4MHz; DC Resistance typ.: 0.98Ohm; Rated Voltage: 80VDC; ComponentLink1Description: Manufacturer; ComponentLink1URL: http://www.we-online.de; ComponentLink2Description: Datasheet; ComponentLink2URL: https://www.we-online.com/catalog/datasheet/784775233.pdf; Published Date: May 2020; Rated Current: 0.43A; Inductance: 330uH; Operating Temperature: -40 to +125degC; Mounting Technology: SMT; Packaging: Tape and Reel; Size: 7850
footprint WE-PD2A_7850
pins: 1, 2

## 784775239
designator L?, comment 390uH, 0.38A
WE-PD2A SMT Power Inductor, size 7850, 390uH, 0.38A; Manufacturer Part Number: 784775239; Manufacturer: Wurth Elektronik; DC Resistance max.: 1.77Ohm; Saturation Current: 0.43A; Self Resonant Frequency: 3MHz; DC Resistance typ.: 1.151Ohm; Rated Voltage: 80VDC; ComponentLink1Description: Manufacturer; ComponentLink1URL: http://www.we-online.de; ComponentLink2Description: Datasheet; ComponentLink2URL: https://www.we-online.com/catalog/datasheet/784775239.pdf; Published Date: May 2020; Rated Current: 0.38A; Inductance: 390uH; Operating Temperature: -40 to +125degC; Mounting Technology: SMT; Packaging: Tape and Reel; Size: 7850
footprint WE-PD2A_7850
pins: 1, 2

## 784775247
designator L?, comment 470uH, 0.36A
WE-PD2A SMT Power Inductor, size 7850, 470uH, 0.36A; Manufacturer Part Number: 784775247; Manufacturer: Wurth Elektronik; DC Resistance max.: 1.96Ohm; Saturation Current: 0.38A; Self Resonant Frequency: 3MHz; DC Resistance typ.: 1.37Ohm; Rated Voltage: 80VDC; ComponentLink1Description: Manufacturer; ComponentLink1URL: http://www.we-online.de; ComponentLink2Description: Datasheet; ComponentLink2URL: https://www.we-online.com/catalog/datasheet/784775247.pdf; Published Date: May 2020; Rated Current: 0.36A; Inductance: 470uH; Operating Temperature: -40 to +125degC; Mounting Technology: SMT; Packaging: Tape and Reel; Size: 7850
footprint WE-PD2A_7850
pins: 1, 2


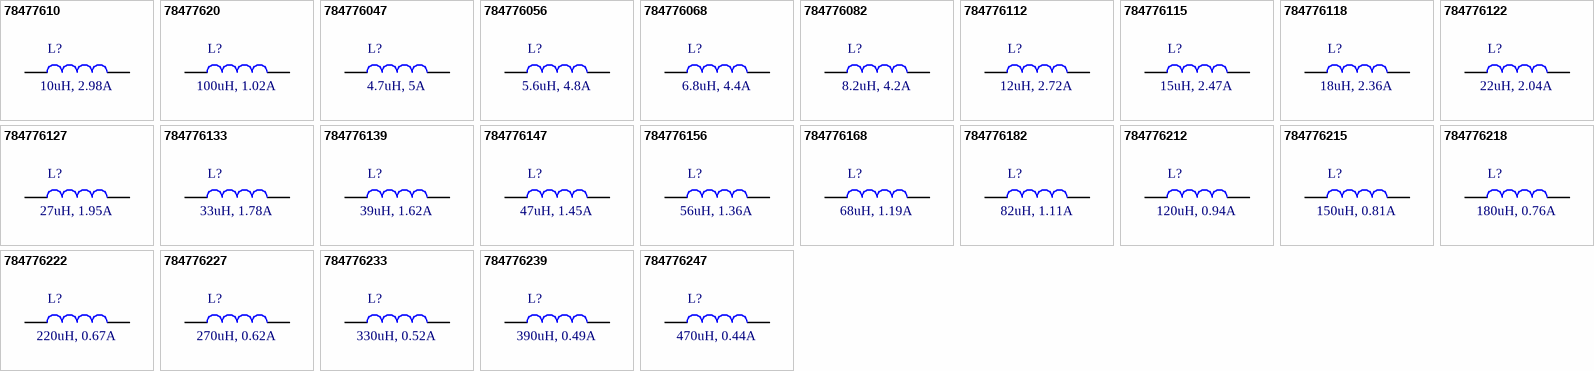
[diagram p3: symbols 78477610 to 784776247]